# Altium footprint library MICROSD.PcbLib: 2 footprints
Each footprint in its own frame and in the unit in brackets; x right, y up, seen from the top. Pads: shape width x height; smd on the part's side, far side on the other; paste and mask are expansions set on the pad; w line width, h text height; cw(c..) or ccw(c..) is an arc to the next point about the centre after c.
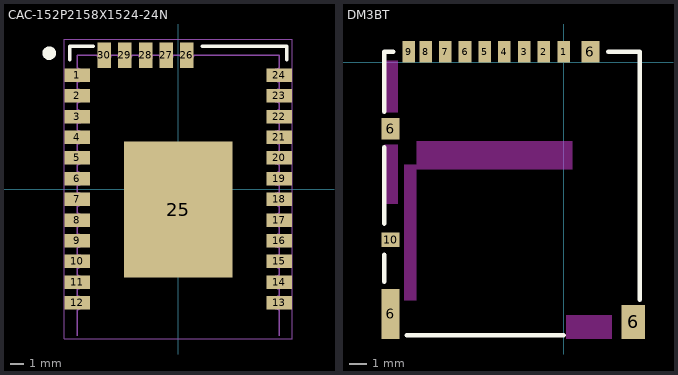
[diagram p0: the footprints below, top view; thin cyan lines are the x and y axes]

## CAC-152P2158X1524-24N [mm] "Chip Array, Concave, 24-Leads, Pitch 1,52mm,  Body 21,59x15,24mm,  IPC Medium Density"
height 0.8
pads (30):
  rect 1.85x1 smd: 1(-7.435,8.382) 2(-7.435,6.858) 3(-7.435,5.334) 4(-7.435,3.81) 5(-7.435,2.286) 6(-7.435,0.762) 7(-7.435,-0.762) 8(-7.435,-2.286) 9(-7.435,-3.81) 10(-7.435,-5.334) 11(-7.435,-6.858) 12(-7.435,-8.382) 13(7.435,-8.382) 14(7.435,-6.858) 15(7.435,-5.334) 16(7.435,-3.81) 17(7.435,-2.286) 18(7.435,-0.762) 19(7.435,0.762) 20(7.435,2.286) 21(7.435,3.81) 22(7.435,5.334) 23(7.435,6.858) 24(7.435,8.382)
  rect 8x10 smd: 25(0,-1.518)
  rect 1x1.85 smd: 26(0.641,9.852) 27(-0.883,9.852) 28(-2.407,9.852) 29(-3.931,9.852) 30(-5.455,9.852)
Top Overlay:
  circle w0.5: c-9.5,10 r0.25
  lines w0.254: -8,9.5 -8,10.5 -6.25,10.5 ; 1.75,10.5 8,10.5 8,9.5
Mechanical 13:
  lines w0.1: -7.435,-10.8 -7.435,-8.882 ccw(c-7.435,-8.382) -7.435,-7.882 -7.435,-7.358 ccw(c-7.435,-6.858) -7.435,-6.358 -7.435,-5.834 ccw(c-7.435,-5.334) -7.435,-4.834 -7.435,-4.31 ccw(c-7.435,-3.81) -7.435,-3.31 -7.435,-2.786 ccw(c-7.435,-2.286) -7.435,-1.786 -7.435,-1.262 ccw(c-7.435,-0.762) -7.435,-0.262 -7.435,0.262 ccw(c-7.435,0.762) -7.435,1.262 -7.435,1.786 ccw(c-7.435,2.286) -7.435,2.786 -7.435,3.31 ccw(c-7.435,3.81) -7.435,4.31 -7.435,4.834 ccw(c-7.435,5.334) -7.435,5.834 -7.435,6.358 ccw(c-7.435,6.858) -7.435,7.358 -7.435,7.882 ccw(c-7.435,8.382) -7.435,8.882 -7.435,9.852 -5.955,9.852 ccw(c-5.455,9.852) -4.955,9.852 -4.431,9.852 ccw(c-3.931,9.852) -3.431,9.852 -2.907,9.852 ccw(c-2.407,9.852) -1.907,9.852 -1.383,9.852 ccw(c-0.883,9.852) -0.383,9.852 0.141,9.852 ccw(c0.641,9.852) 1.141,9.852 7.435,9.852 7.435,8.882 ccw(c7.435,8.382) 7.435,7.882 7.435,7.358 ccw(c7.435,6.858) 7.435,6.358 7.435,5.834 ccw(c7.435,5.334) 7.435,4.834 7.435,4.31 ccw(c7.435,3.81) 7.435,3.31 7.435,2.786 ccw(c7.435,2.286) 7.435,1.786 7.435,1.262 ccw(c7.435,0.762) 7.435,0.262 7.435,-0.262 ccw(c7.435,-0.762) 7.435,-1.262 7.435,-1.786 ccw(c7.435,-2.286) 7.435,-2.786 7.435,-3.31 ccw(c7.435,-3.81) 7.435,-4.31 7.435,-4.834 ccw(c7.435,-5.334) 7.435,-5.834 7.435,-6.358 ccw(c7.435,-6.858) 7.435,-7.358 7.435,-7.882 ccw(c7.435,-8.382) 7.435,-8.882 7.435,-10.8
Mechanical 15:
  lines w0.05: -8.39,-11.045 8.39,-11.045 8.39,11.045 -8.39,11.045 -8.39,-11.045
3D body: height 1.51, standoff -0.01, extent -7.62,-16.911 7.62,10.013

## DM3BT [mm]
height 1.8
pads (14):
  rect 0.7x1.2 smd: 1(0,0.6) 2(-1.1,0.6) 3(-2.2,0.6) 4(-3.3,0.6) 5(-4.4,0.6) 6(-5.5,0.6) 7(-6.6,0.6) 8(-7.7,0.6) 9(-8.65,0.6)
  rect 1x2.8 smd: 6(-9.65,-14.05)
  rect 1x1.2 smd: 6(-9.65,-3.7) 6(1.5,0.6)
  rect 1.3x1.9 smd: 6(3.9,-14.5)
  rect 1x0.8 smd: 10(-9.65,-9.9)
Top Layer keep-out:
  rectangle: -10,-7.9 -9.25,-4.6
  rectangle: -10,-2.8 -9.25,0.1
  rectangle: -8.2,-6 0.5,-4.4
  rectangle: -8.9,-13.3 -8.2,-5.7
  rectangle: 0.15,-15.45 2.7,-14.1
Top Overlay:
  lines w0.254: -10,-12.25 -10,-10.75 ; -10,-9 -10,-4.75 ; -10,-2.75 -10,0.6 -9.5,0.6 ; -8.75,-15.25 0,-15.25 ; 2.5,0.6 4.25,0.6 4.25,-13.25
Top Solder:
  rectangle: -9.1,-0.1 0.4,1.3
3D body: height 1.68, standoff 0, extent -9.75,-15.35 4.1,0.8